# Altium footprint library CAPPOL_SMD_SIZE_F.PcbLib: 1 footprints
Each footprint in its own frame and in the unit in brackets; x right, y up, seen from the top. Pads: shape width x height; smd on the part's side, far side on the other; paste and mask are expansions set on the pad; w line width, h text height; cw(c..) or ccw(c..) is an arc to the next point about the centre after c.
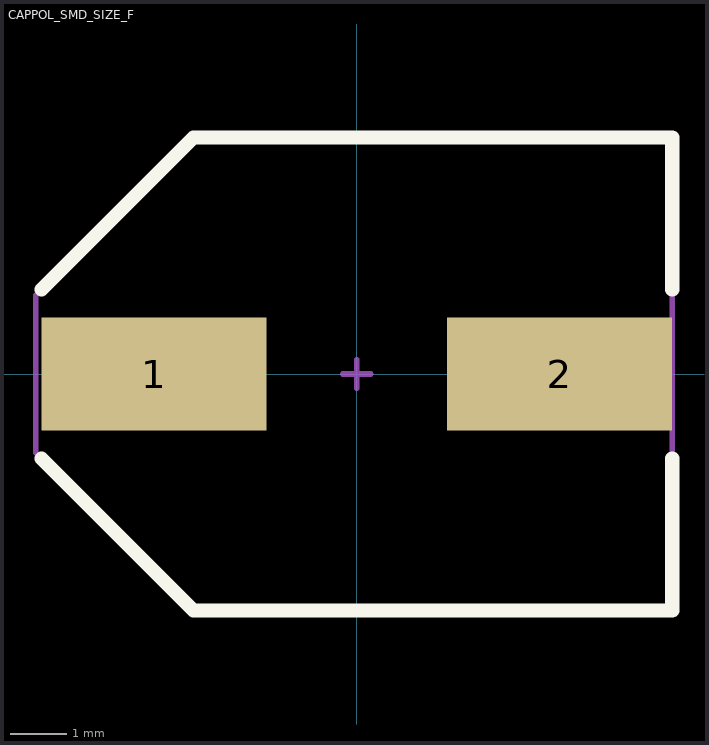
[diagram p0: the footprint, top view; thin cyan lines are the x and y axes]

## CAPPOL_SMD_SIZE_F [mm]
height 0.95
pads (2):
  rect 4x2 smd: 1(-3.6,0) 2(3.6,0)
Top Overlay:
  lines w0.254: -5.6,-1.5 -2.9,-4.2 5.6,-4.2 5.6,-1.5 ; -5.6,1.5 -2.9,4.2 5.6,4.2 5.6,1.5
Top Assembly:
  lines w0.1: -0.25,0 0.25,0 ; 0,-0.25 0,0.25 ; -5.7,-1.4 -2.9,-4.2 5.6,-4.2 5.6,4.2 -2.9,4.2 -5.7,1.4 -5.7,-1.4
  text "'.Designator'" at 0,0 h0.7
3D body "User Library-capacitor size F.STEP": height 10.21, standoff -0.01, extent -4.95,-4.15 4.95,4.15